# EAGLE library part GH1.25-15P (library JST-GH1.25)
JST GH 1.25mm PITCH SMD HEADER
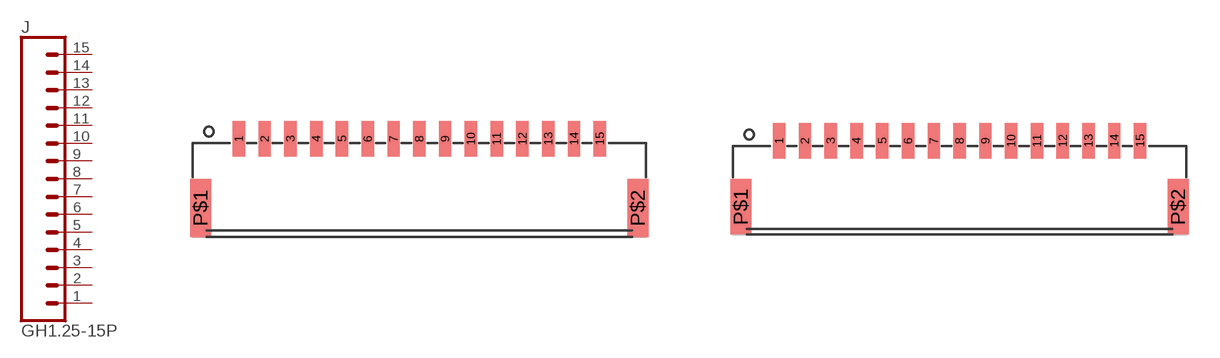
[diagram p9: symbol with the pads of BM15B-GHS-TBT; footprints BM15B-GHS-TBT, SM15B-GHS-TB]

Designator prefix J

## GH1.25-15P-BM15B-GHS-TBT  [BM15B-GHS-TBT]
1  1  pas
2  2  pas
3  3  pas
4  4  pas
5  5  pas
6  6  pas
7  7  pas
8  8  pas
9  9  pas
10  10  pas
11  11  pas
12  12  pas
13  13  pas
14  14  pas
15  15  pas

## GH1.25-15P-SM15B-GHS-TB  [SM15B-GHS-TB]
Pads as for BM15B-GHS-TBT

## Footprint BM15B-GHS-TBT (pad centres in mm)
TOP ENTRY JST GH 1.25mm SMD HEADER
smd 0.6 x 1.7: 1 -8.75,4.75; 2 -7.5,4.75; 3 -6.25,4.75; 4 -5,4.75; 5 -3.75,4.75; 6 -2.5,4.75; 7 -1.25,4.75; 8 0,4.75; 9 1.25,4.75; 10 2.5,4.75; 11 3.75,4.75; 12 5,4.75; 13 6.25,4.75; 14 7.5,4.75; 15 8.75,4.75
smd 1 x 2.8: P$1 -10.6,1.4; P$2 10.6,1.4

## Footprint SM15B-GHS-TB (pad centres in mm)
SIDE ENTRY JST GH 1.25mm SMD HEADER
smd 0.6 x 1.7: 1 -8.75,4.55; 2 -7.5,4.55; 3 -6.25,4.55; 4 -5,4.55; 5 -3.75,4.55; 6 -2.5,4.55; 7 -1.25,4.55; 8 0,4.55; 9 1.25,4.55; 10 2.5,4.55; 11 3.75,4.55; 12 5,4.55; 13 6.25,4.55; 14 7.5,4.55; 15 8.75,4.55
smd 1 x 2.7: P$1 -10.6,1.35; P$2 10.6,1.35